# EAGLE library part TEENSY_4.1 (library Teensy)
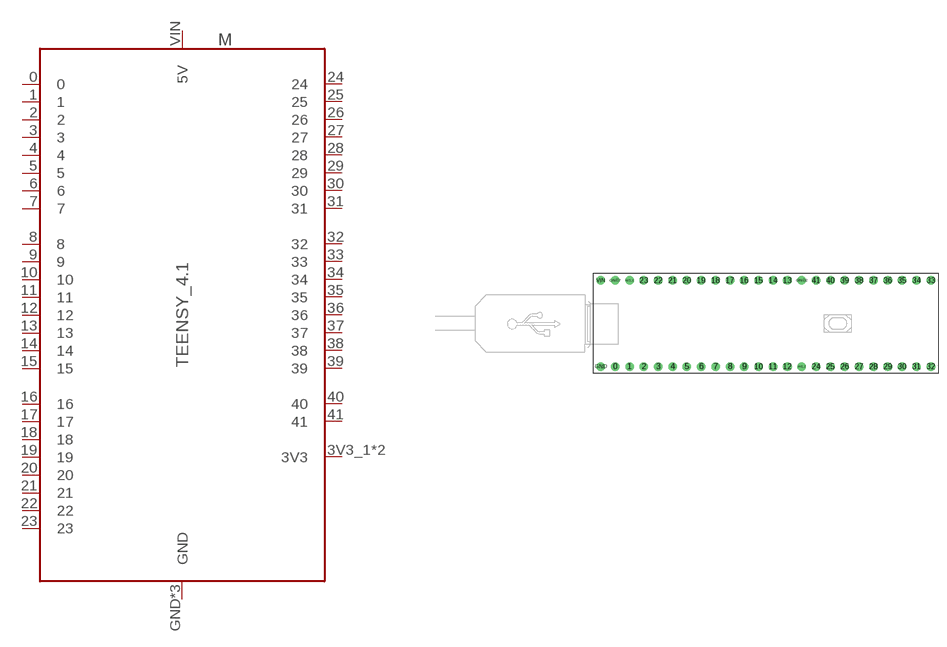
[diagram p1: symbol with the pads of TEENSY_4.1_BASIC; footprint TEENSY_4.1_BASIC]

Designator prefix M

## TEENSY_4.1_BASIC (MPN: 2x 2.54mm 24-pin header)  [TEENSY_4.1_BASIC]
0  0
1  1
2  2
3  3
3V3_1  3V3  out
3V3_2  3V3  out
4  4
5  5
6  6
7  7
8  8
9  9
10  10
11  11
12  12
13  13
14  14
15  15
16  16
17  17
18  18
19  19
20  20
21  21
22  22
23  23
24  24
25  25
26  26
27  27
28  28
29  29
30  30
31  31
32  32
33  33
34  34
35  35
36  36
37  37
38  38
39  39
40  40
41  41
GND  GND  pwr
GND2  GND  pwr
GND7  GND  pwr
VIN  5V  pwr

## Footprint TEENSY_4.1_BASIC (pad centres in mm)
drill 1: 0 -26.67,-7.62; 1 -24.13,-7.62; 2 -21.59,-7.62; 3 -19.05,-7.62; 3V3_1 6.35,-7.62; 3V3_2 -24.13,7.62; 4 -16.51,-7.62; 5 -13.97,-7.62; 6 -11.43,-7.62; 7 -8.89,-7.62; 8 -6.35,-7.62; 9 -3.81,-7.62; 10 -1.27,-7.62; 11 1.27,-7.62; 12 3.81,-7.62; 13 3.81,7.62; 14 1.27,7.62; 15 -1.27,7.62; 16 -3.81,7.62; 17 -6.35,7.62; 18 -8.89,7.62; 19 -11.43,7.62; 20 -13.97,7.62; 21 -16.51,7.62; 22 -19.05,7.62; 23 -21.59,7.62; 24 8.89,-7.62; 25 11.43,-7.62; 26 13.97,-7.62; 27 16.51,-7.62; 28 19.05,-7.62; 29 21.59,-7.62; 30 24.13,-7.62; 31 26.67,-7.62; 32 29.21,-7.62; 33 29.21,7.62; 34 26.67,7.62; 35 24.13,7.62; 36 21.59,7.62; 37 19.05,7.62; 38 16.51,7.62; 39 13.97,7.62; 40 11.43,7.62; 41 8.89,7.62; GND -29.21,-7.62; GND2 6.35,7.62; GND7 -26.67,7.62; VIN -29.21,7.62